# Altium schematic symbol library PTV09A-Potentiometer.SchLib: 1 symbol
Pins are listed as number, name and electrical type; pins without a type are passive.

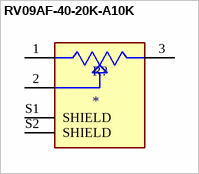
[diagram p0: symbol RV09AF-40-20K-A10K]

## RV09AF-40-20K-A10K
designator R?
PC Mount Black Shaft Potentiometers Audio 9mm 10K; MF: Alpha Taiwan; MP: RV09AF-40-20K-A10K; SnapEDA_Link: https://www.snapeda.com/parts/RV09AF-40-20K-A10K/Alpha/view-part/?ref=snap; Package: None; Value: *; Check_prices: https://www.snapeda.com/parts/RV09AF-40-20K-A10K/Alpha/view-part/?ref=eda
footprint PTV09A-4025F-B103
pins: 1, 2, 3, S1 SHIELD, S2 SHIELD